# EAGLE library part ATMEGA328P (library atmel)
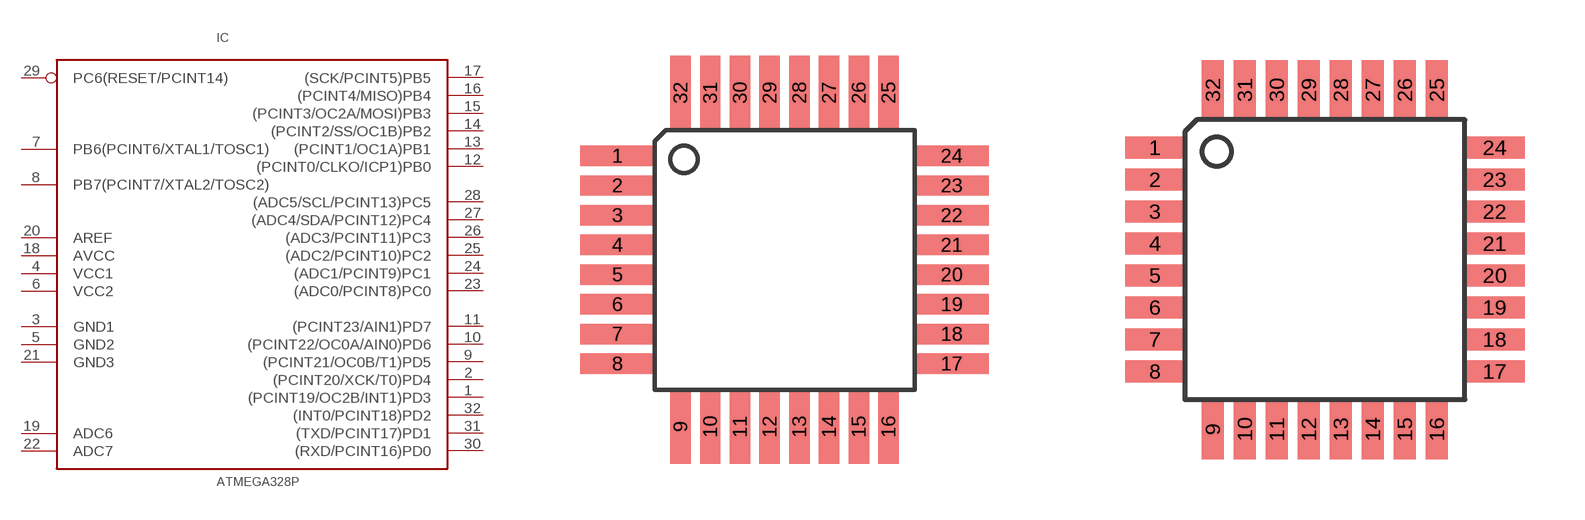
[diagram p1: symbol with the pads of TQFP32; footprints TQFP32, TQFP32_REFLOW]

Designator prefix IC

## ATMEGA328P_TQFP32  [TQFP32]
1  (PCINT19/OC2B/INT1)PD3
2  (PCINT20/XCK/T0)PD4
3  GND1  pwr
4  VCC1  pwr
5  GND2  pwr
6  VCC2  pwr
7  PB6(PCINT6/XTAL1/TOSC1)
8  PB7(PCINT7/XTAL2/TOSC2)
9  (PCINT21/OC0B/T1)PD5
10  (PCINT22/OC0A/AIN0)PD6
11  (PCINT23/AIN1)PD7
12  (PCINT0/CLKO/ICP1)PB0
13  (PCINT1/OC1A)PB1
14  (PCINT2/SS/OC1B)PB2
15  (PCINT3/OC2A/MOSI)PB3
16  (PCINT4/MISO)PB4
17  (SCK/PCINT5)PB5
18  AVCC  pwr
19  ADC6  in
20  AREF  pwr
21  GND3  pwr
22  ADC7  in
23  (ADC0/PCINT8)PC0
24  (ADC1/PCINT9)PC1
25  (ADC2/PCINT10)PC2
26  (ADC3/PCINT11)PC3
27  (ADC4/SDA/PCINT12)PC4
28  (ADC5/SCL/PCINT13)PC5
29  PC6(RESET/PCINT14)  in
30  (RXD/PCINT16)PD0
31  (TXD/PCINT17)PD1
32  (INT0/PCINT18)PD2

## ATMEGA328P_TQFP32_REFLOW  [TQFP32_REFLOW]
Pads as for TQFP32

## Footprint TQFP32 (pad centres in mm)
smd 2 x 0.55: 1 -4.5,2.8; 2 -4.5,2; 3 -4.5,1.2; 4 -4.5,0.4; 5 -4.5,-0.4; 6 -4.5,-1.2; 7 -4.5,-2; 8 -4.5,-2.8; 17 4.5,-2.8; 18 4.5,-2; 19 4.5,-1.2; 20 4.5,-0.4; 21 4.5,0.4; 22 4.5,1.2; 23 4.5,2; 24 4.5,2.8
smd 0.55 x 2: 9 -2.8,-4.5; 10 -2,-4.5; 11 -1.2,-4.5; 12 -0.4,-4.5; 13 0.4,-4.5; 14 1.2,-4.5; 15 2,-4.5; 16 2.8,-4.5; 25 2.8,4.5; 26 2,4.5; 27 1.2,4.5; 28 0.4,4.5; 29 -0.4,4.5; 30 -1.2,4.5; 31 -2,4.5; 32 -2.8,4.5

## Footprint TQFP32_REFLOW (pad centres in mm)
smd 1.5 x 0.55: 1 -4.246,2.8; 2 -4.246,2; 3 -4.246,1.2; 4 -4.246,0.4; 5 -4.246,-0.4; 6 -4.246,-1.2; 7 -4.246,-2; 8 -4.246,-2.8; 17 4.246,-2.8; 18 4.246,-2; 19 4.246,-1.2; 20 4.246,-0.4; 21 4.246,0.4; 22 4.246,1.2; 23 4.246,2; 24 4.246,2.8
smd 0.55 x 1.5: 9 -2.8,-4.246; 10 -2,-4.246; 11 -1.2,-4.246; 12 -0.4,-4.246; 13 0.4,-4.246; 14 1.2,-4.246; 15 2,-4.246; 16 2.8,-4.246; 25 2.8,4.246; 26 2,4.246; 27 1.2,4.246; 28 0.4,4.246; 29 -0.4,4.246; 30 -1.2,4.246; 31 -2,4.246; 32 -2.8,4.246